# Altium footprint library Atmega8_Stamp.PcbLib: 2 footprints
Each footprint in its own frame and in the unit in brackets; x right, y up, seen from the top. Pads: shape width x height; smd on the part's side, far side on the other; paste and mask are expansions set on the pad; w line width, h text height; cw(c..) or ccw(c..) is an arc to the next point about the centre after c.
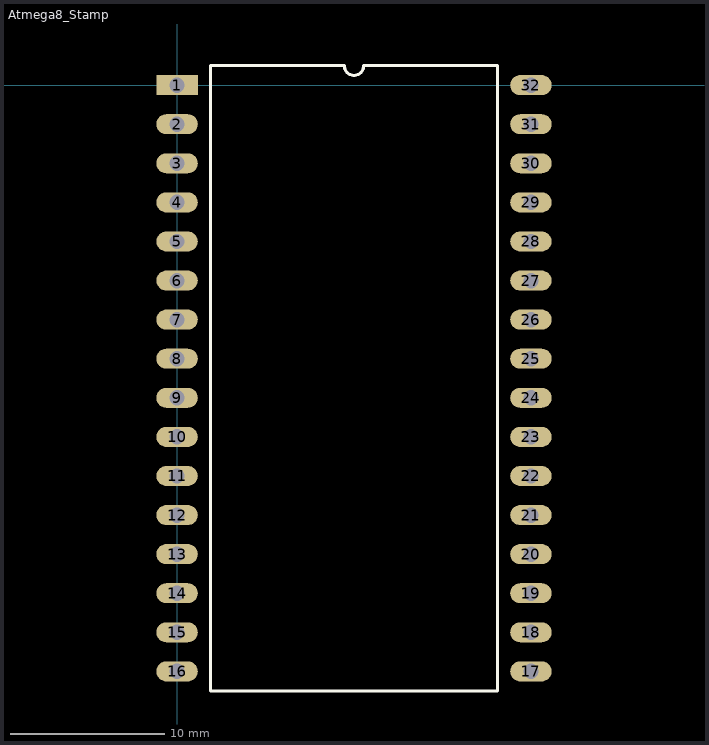
[diagram p0: the footprints below, top view; thin cyan lines are the x and y axes]

## Atmega8_Stamp [mm]
pads (32):
  rect 2.7x1.3 hole 1: 1(0,0)
  oval 2.7x1.3 hole 1: 2(0,-2.54) 3(0,-5.08) 4(0,-7.62) 5(0,-10.16) 6(0,-12.7) 7(0,-15.24) 8(0,-17.78) 9(0,-20.32) 10(0,-22.86) 11(0,-25.4) 12(0,-27.94) 13(0,-30.48) 14(0,-33.02) 15(0,-35.56) 16(0,-38.1) 17(23,-38.1) 18(23,-35.56) 19(23,-33.02) 20(23,-30.48) 21(23,-27.94) 22(23,-25.4) 23(23,-22.86) 24(23,-20.32) 25(23,-17.78) 26(23,-15.24) 27(23,-12.7) 28(23,-10.16) 29(23,-7.62) 30(23,-5.08) 31(23,-2.54) 32(23,0)
Top Overlay:
  lines w0.2: 2.185,-39.37 2.185,1.27 10.865,1.27 ccw(c11.5,1.27) 12.135,1.27 20.815,1.27 20.815,-39.37 2.185,-39.37

## PCBComponent_1 [mm]